# Altium footprint library Con_PCB_LIB.PcbLib: 44 footprints (part 1 of 3)
Each footprint in its own frame and in the unit in brackets; x right, y up, seen from the top. Pads: shape width x height; smd on the part's side, far side on the other; paste and mask are expansions set on the pad; w line width, h text height; cw(c..) or ccw(c..) is an arc to the next point about the centre after c.
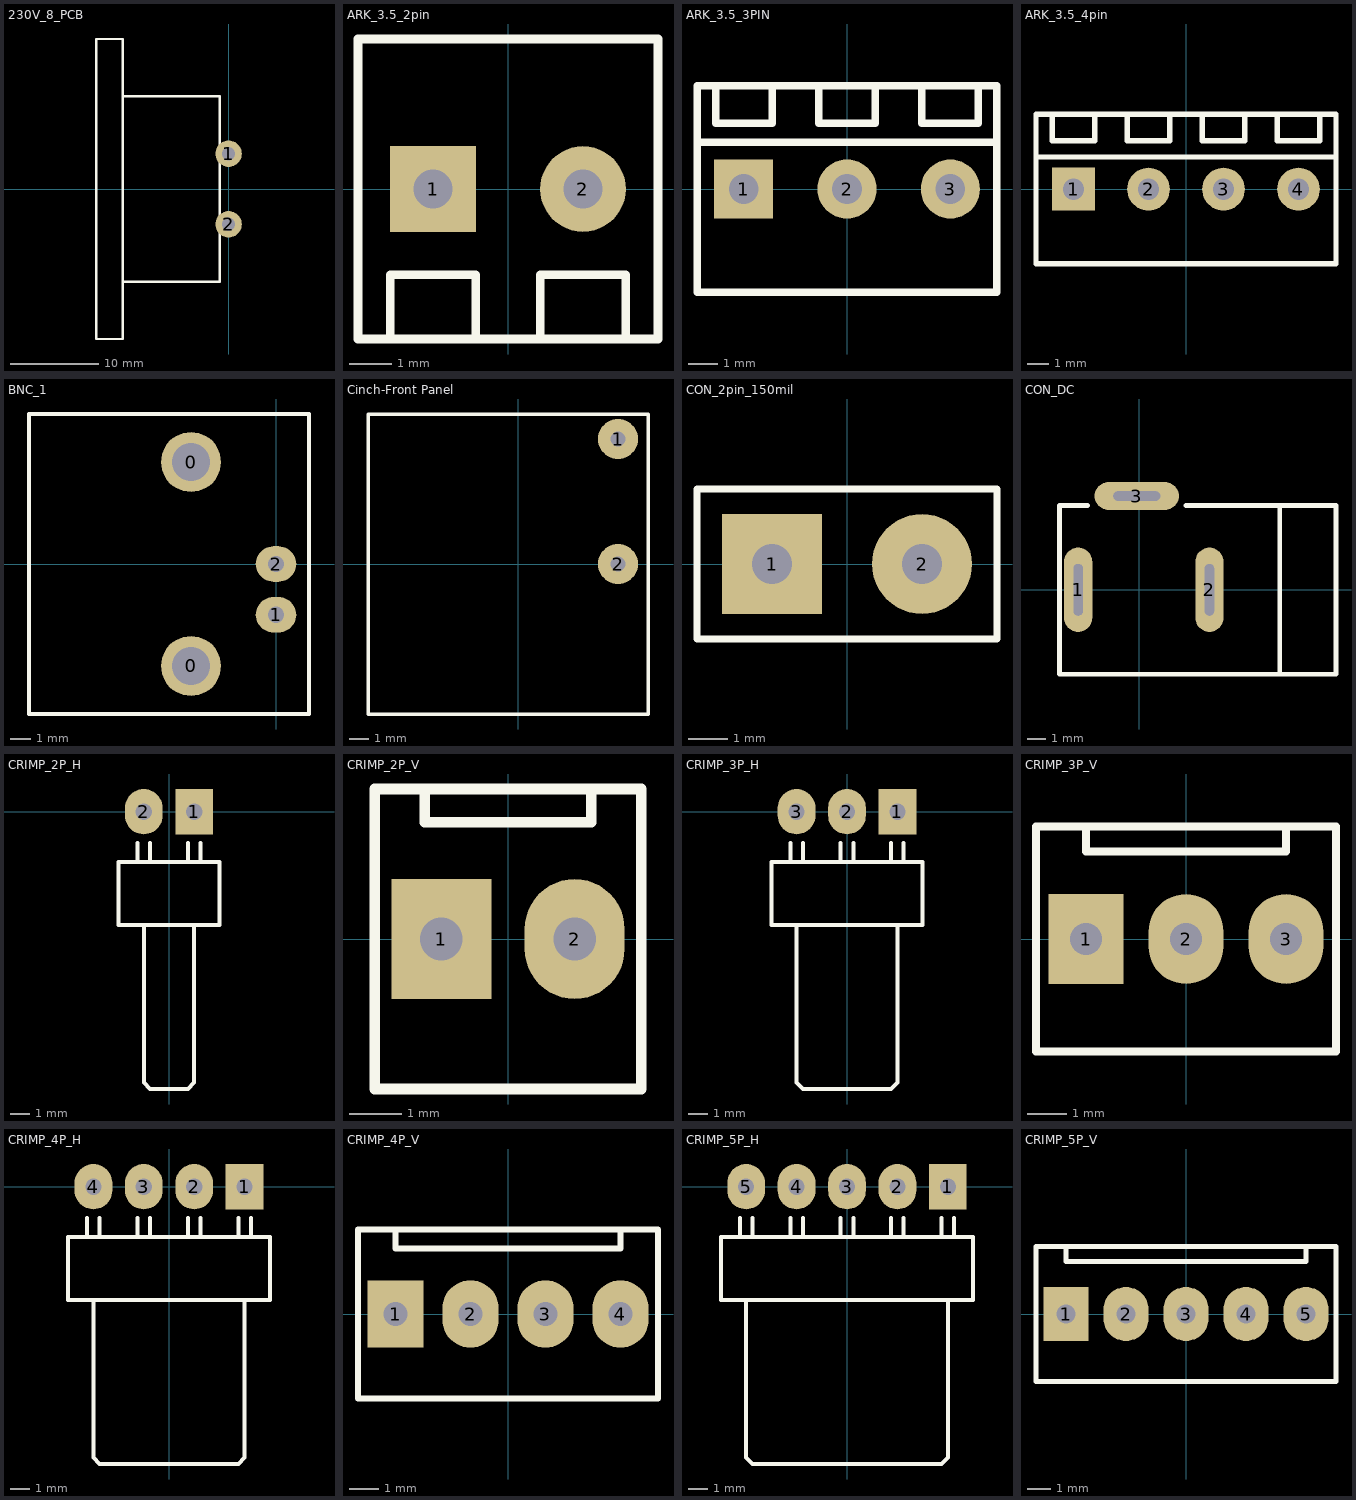
[diagram p0: the footprints below, top view; thin cyan lines are the x and y axes]

## 230V_8_PCB [mm] "Gniazdo 230 \"ósemka\" do druku"
height 14.5
pads (2):
  round 3 hole 1.5: 1(0,4) 2(0,-4)
Top Overlay:
  lines w0.254: -12,-10.5 -1,-10.5 -1,10.5 -12,10.5 ; -15,-17 -12,-17 -12,17 -15,17 -15,0 -15,-17
3D body "230V_8_PCB.STEP": height 14.68, standoff -2.07, extent -17.95,-17 0.25,17

## ARK_3.5_2pin [mm] "Z³¹cze ARK mini 3.5mm"
height 7.62
pads (2):
  rect 2x2 hole 0.9: 1(-1.75,0)
  round 2 hole 0.9: 2(1.75,0)
Top Overlay:
  lines w0.203: -2.75,-3.5 -2.75,-2 -0.75,-2 -0.75,-3.5 ; 0.75,-3.5 0.75,-2 2.75,-2 2.75,-3.5 ; -3.5,-3.5 -3.5,3.5 3.5,3.5 3.5,-3.5 -3.5,-3.5
3D body "ARK_Œruba.STEP": height 7, standoff 2.5, extent -3.1,-1.292 -0.4,1.4
3D body "ARK_Œruba.STEP": height 7, standoff 2.5, extent 0.4,-1.3 3.1,1.397
3D body "ARK_Pin.STEP": height 4.3, standoff -3.9, extent -3.15,-1.9 -0.35,1.9
3D body "ARK_Pin.STEP": height 4.3, standoff -3.9, extent 0.35,-1.9 3.15,1.9
3D body "ARK_Body.STEP": height 8.5, standoff 0, extent -3.8,-3.5 3.8,3.5

## ARK_3.5_3PIN [mm] "Z³acze ARK raster 3.5mm 3 pin"
height 8.25
pads (3):
  rect 2x2 hole 1: 1(-3.5,0)
  round 2 hole 1: 2(0,0) 3(3.5,0)
Top Overlay:
  lines w0.254: -5.08,1.587 5.08,1.587 ; -4.445,3.492 -4.445,2.222 -2.54,2.222 -2.54,3.492 ; -0.953,3.492 -0.953,2.222 0.953,2.222 0.953,3.492 ; 2.54,3.433 2.54,2.222 4.445,2.222 4.445,3.492 ; -5.08,-3.492 -5.08,3.492 5.08,3.492 5.08,-3.492 -5.08,-3.492
3D body "ARK_3pin_3.5mm.STEP": height 8.52, standoff -3.88, extent -5.55,-3.43 5.55,3.57

## ARK_3.5_4pin [mm] "Z³¹cze ARK mini 3.5mm"
height 7.62
pads (4):
  rect 2x2 hole 1: 1(-5.25,0)
  round 2 hole 1: 2(-1.75,0) 3(1.75,0) 4(5.25,0)
Top Overlay:
  lines w0.254: -7,1.5 7,1.5 ; -6.25,3.5 -6.25,2.25 -4.25,2.25 -4.25,3.5 ; -2.75,3.5 -2.75,2.25 -0.75,2.25 -0.75,3.5 ; 0.75,3.5 0.75,2.25 2.75,2.25 2.75,3.5 ; 4.25,3.5 4.25,2.25 6.25,2.25 6.25,3.5 ; -7,-3.485 -7,3.5 7,3.5 7,-3.485 -7,-3.485
3D body "ARK_Body.STEP": height 8.5, standoff 0, extent -7.3,-3.5 0.3,3.5
3D body "ARK_Pin.STEP": height 4.3, standoff -3.9, extent -3.15,-1.9 -0.35,1.9
3D body "ARK_Pin.STEP": height 4.3, standoff -3.9, extent -6.65,-1.9 -3.85,1.9
3D body "ARK_Œruba.STEP": height 7, standoff 2.5, extent -3.1,-1.3 -0.4,1.397
3D body "ARK_Œruba.STEP": height 7, standoff 2.5, extent -6.6,-1.292 -3.9,1.4
3D body "ARK_Body.STEP": height 8.5, standoff 0, extent -0.3,-3.5 7.3,3.5
3D body "ARK_Pin.STEP": height 4.3, standoff -3.9, extent 3.85,-1.9 6.65,1.9
3D body "ARK_Pin.STEP": height 4.3, standoff -3.9, extent 0.35,-1.9 3.15,1.9
3D body "ARK_Œruba.STEP": height 7, standoff 2.5, extent 3.9,-1.3 6.6,1.397
3D body "ARK_Œruba.STEP": height 7, standoff 2.5, extent 0.4,-1.292 3.1,1.4

## BNC_1 [mm] "BNC Angle Connector"
height 16.51
pads (4):
  round 3 hole 1.9: 0(-4.25,-5.1) 0(-4.25,5.1)
  oval 2.032x1.778 hole 0.813: 1(0,-2.54) 2(0,0)
Top Overlay:
  lines w0.178: -12.35,-7.5 -12.35,7.5 1.65,7.5 1.65,-7.5 -12.35,-7.5
3D body "BNC_K¹towy_1.STEP": height 16, standoff -2.5, extent -32.8,-7.5 1.7,7.5

## Cinch-Front Panel [mil] "Gniazdo Cinch na panel"
height 600
pads (2):
  round 80 hole 30: 1(200,250) 2(200,0)
Top Overlay:
  lines w7: -300,-300 0,-300 260,-300 260,300 0,300 -300,300 -300,-300
3D body "Cinch_Front_Panel.STEP": height 260.34, standoff -330.21, extent -777.72,-295.55 257.72,295

## CON_2pin_150mil [mil] "Konektor 2pin raster 150mils"
pads (2):
  rect 100x100 hole 40: 1(-75,0)
  round 100 hole 40: 2(75,0)
Top Overlay:
  lines w7: -150,-75 150,-75 150,75 -150,75 -150,-75

## CON_DC [mil] "Konektor DC"
height 450
pads (3):
  oval 60x180 hole 20 slot 110 at 90 deg: 1(-130,0) 2(150,0)
  oval 180x60 hole 20 slot 100 at 0 deg: 3(-5,200)
Top Overlay:
  lines w10: -110,180 -170,180 -170,-180 420,-180 420,180 100,180 ; 300,-180 300,180
3D body "2.1mm_DC_Power_Socket.STEP": height 423.23, standoff -157.48, extent -149.53,-171.89 409.53,210

## CRIMP_2P_H [mil] "Z³¹cze CRIMP 2pin - poziome"
height 230
pads (2):
  rect 75x90 hole 32: 1(50,0)
  oval 75x90 hole 32: 2(-50,0)
Top Overlay:
  lines w8: -62.5,-100 -62.5,-62.5 ; -50,-225 -50,-537.5 -37.5,-550 37.5,-550 50,-537.5 50,-225 ; -37.5,-100 -37.5,-62.5 ; 37.5,-100 37.5,-62.5 ; 62.5,-100 62.5,-62.5 ; -100,-225 -100,-100 100,-100 100,-225 -100,-225

## CRIMP_2P_V [mil] "Gniazdo Crimp 2pin, pionowe"
height 450
pads (2):
  rect 75x90 hole 32: 1(-50,0)
  oval 75x90 hole 32: 2(50,0)
Top Overlay:
  lines w8: -62.5,112.5 -62.5,87.5 62.5,87.5 62.5,112.5 ; -100,-112.5 100,-112.5 100,112.5 -100,112.5 -100,-112.5
3D body: height 437.5, standoff 412.5, extent 37.5,-12.45 62.37,12.45
3D body: height 437.5, standoff 412.5, extent -62.5,-12.45 -37.63,12.45
3D body: height 455, standoff 125, extent -62.5,87.5 62.5,112.5
3D body: height 125, standoff 0, extent -100,-112.5 100,112.5
3D body: height 425, standoff 125, extent -62.5,-12.5 -37.6,12.45
3D body: height 425, standoff 125, extent 37.5,-12.5 62.4,12.45

## CRIMP_3P_H [mil] "Z³acze CRIMP 3pin poziome"
height 230
pads (3):
  rect 75x90 hole 32: 1(100,0)
  oval 75x90 hole 32: 2(0,0) 3(-100,0)
Top Overlay:
  lines w8: -112.5,-100 -112.5,-62.5 ; -100,-225 -100,-537.5 -87.5,-550 87.5,-550 100,-537.5 100,-225 ; -87.5,-100 -87.5,-62.5 ; -12.5,-100 -12.5,-62.5 ; 12.5,-100 12.5,-62.5 ; 87.5,-100 87.5,-62.5 ; 112.5,-100 112.5,-62.5 ; -150,-225 -150,-100 150,-100 150,-225 -150,-225
3D body: height 225, standoff 0, extent -150,-225 150,-100
3D body: height 30, standoff 0, extent -100,-550 100,-225
3D body: height 102.4, standoff 77.5, extent -12.45,-525 12.5,-225
3D body: height 102.4, standoff 77.5, extent -112.45,-525 -87.5,-225
3D body: height 102.4, standoff 77.5, extent 87.5,-525 112.45,-225
3D body: height 102.5, standoff 77.5, extent 87.58,-537.45 112.45,-512.55
3D body: height 102.5, standoff 77.5, extent -12.5,-537.5 12.37,-512.61
3D body: height 102.5, standoff 77.5, extent -112.5,-537.5 -87.63,-512.61

## CRIMP_3P_V [mil] "Z³¹cze CRIMP 2pin pionowe"
height 450
pads (3):
  rect 75x90 hole 32: 1(-100,0)
  oval 75x90 hole 32: 2(0,0) 3(100,0)
Top Overlay:
  lines w8: -100,112.5 -100,87.5 100,87.5 100,112.5 ; -150,-112.5 -150,112.5 150,112.5 150,-112.5 -150,-112.5
3D body: height 425, standoff 125, extent -12.45,-12.5 12.45,12.45
3D body: height 425, standoff 125, extent -112.5,-12.5 -87.6,12.45
3D body: height 425, standoff 125, extent 87.6,-12.45 112.5,12.5
3D body: height 437.5, standoff 412.5, extent -12.37,-12.39 12.5,12.5
3D body: height 437.5, standoff 412.5, extent 87.63,-12.39 112.5,12.5
3D body: height 437.5, standoff 412.5, extent -112.5,-12.45 -87.63,12.45
3D body: height 125, standoff 0, extent -150,-112.5 150,112.5
3D body: height 455, standoff 125, extent -100,87.5 100,112.5

## CRIMP_4P_H [mil] "Z³¹cze CRIMP 4pin poziome"
height 230
pads (4):
  rect 75x90 hole 32: 1(150,0)
  oval 75x90 hole 32: 2(50,0) 3(-50,0) 4(-150,0)
Top Overlay:
  lines w8: -162.5,-100 -162.5,-62.5 ; -150,-225 -150,-537.5 -137.5,-550 137.5,-550 150,-537.5 150,-225 ; -137.5,-100 -137.5,-62.5 ; -62.5,-100 -62.5,-62.5 ; -37.5,-100 -37.5,-62.5 ; 37.5,-100 37.5,-62.5 ; 62.5,-100 62.5,-62.5 ; 137.5,-100 137.5,-62.5 ; 162.5,-100 162.5,-62.5 ; -200,-225 -200,-100 200,-100 200,-225 -200,-225

## CRIMP_4P_V [mil] "Z³acze CRIMP 4pin pionowe"
height 450
pads (4):
  rect 75x90 hole 32: 1(-150,0)
  oval 75x90 hole 32: 2(-50,0) 3(50,0) 4(150,0)
Top Overlay:
  lines w8: -150,112.5 -150,87.5 150,87.5 150,112.5 ; -200,-112.5 -200,112.5 200,112.5 200,-112.5 -200,-112.5

## CRIMP_5P_H [mil] "Z³¹cze CRIMP 5pin poziome"
height 230
pads (5):
  rect 75x90 hole 32: 1(200,0)
  oval 75x90 hole 32: 2(100,0) 3(0,0) 4(-100,0) 5(-200,0)
Top Overlay:
  lines w8: -212.5,-100 -212.5,-62.5 ; -200,-225 -200,-537.5 -187.5,-550 187.5,-550 200,-537.5 200,-225 ; -187.5,-100 -187.5,-62.5 ; -112.5,-100 -112.5,-62.5 ; -87.5,-100 -87.5,-62.5 ; -12.5,-100 -12.5,-62.5 ; 12.5,-100 12.5,-62.5 ; 87.5,-100 87.5,-62.5 ; 112.5,-100 112.5,-62.5 ; 187.5,-100 187.5,-62.5 ; 212.5,-100 212.5,-62.5 ; -250,-225 -250,-100 250,-100 250,-225 -250,-225

## CRIMP_5P_V [mil] "Z³acze CRIMP 5pin pionowe"
height 450
pads (5):
  rect 75x90 hole 32: 1(-200,0)
  oval 75x90 hole 32: 2(-100,0) 3(0,0) 4(100,0) 5(200,0)
Top Overlay:
  lines w8: -200,112.5 -200,87.5 200,87.5 200,112.5 ; -250,-112.5 -250,112.5 250,112.5 250,-112.5 -250,-112.5